# Altium schematic symbol library MB0056A.01.A.1.SchLib: 1 symbol
Pins are listed as number, name and electrical type; pins without a type are passive.

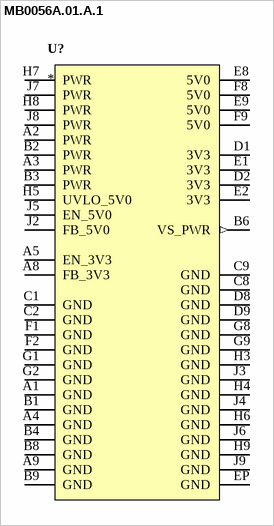
[diagram p0: symbol MB0056A.01.A.1]

## MB0056A.01.A.1
designator U?
6-20V input, 5V @ 1.2A/3.3V @1.2A output
pins: A1 GND (power), A2 PWR (power), A3 PWR (power), A4 GND (power), A5 EN_3V3, A8 FB_3V3, A9 GND (power), B1 GND (power), B2 PWR (power), B3 PWR (power), B4 GND (power), B6 VS_PWR (out), B8 GND (power), B9 GND (power), C1 GND (power), C2 GND (power), C8 GND (power), C9 GND (power), D1 3V3 (power), D2 3V3 (power), D8 GND (power), D9 GND (power), E1 3V3 (power), E2 3V3 (power), E8 5V0 (power), E9 5V0 (power), EP GND (power), F1 GND (power), F2 GND (power), F8 5V0 (power), F9 5V0 (power), G1 GND (power), G2 GND (power), G8 GND (power), G9 GND (power), H3 GND (power), H4 GND (power), H5 UVLO_5V0, H6 GND (power), H7 PWR (power), H8 PWR (power), H9 GND (power), J2 FB_5V0, J3 GND (power), J4 GND (power), J5 EN_5V0, J6 GND (power), J7 PWR (power), J8 PWR (power), J9 GND (power)